# Altium integrated library Microchip PIC24F.IntLib: 529 symbols (part 8 of 32)
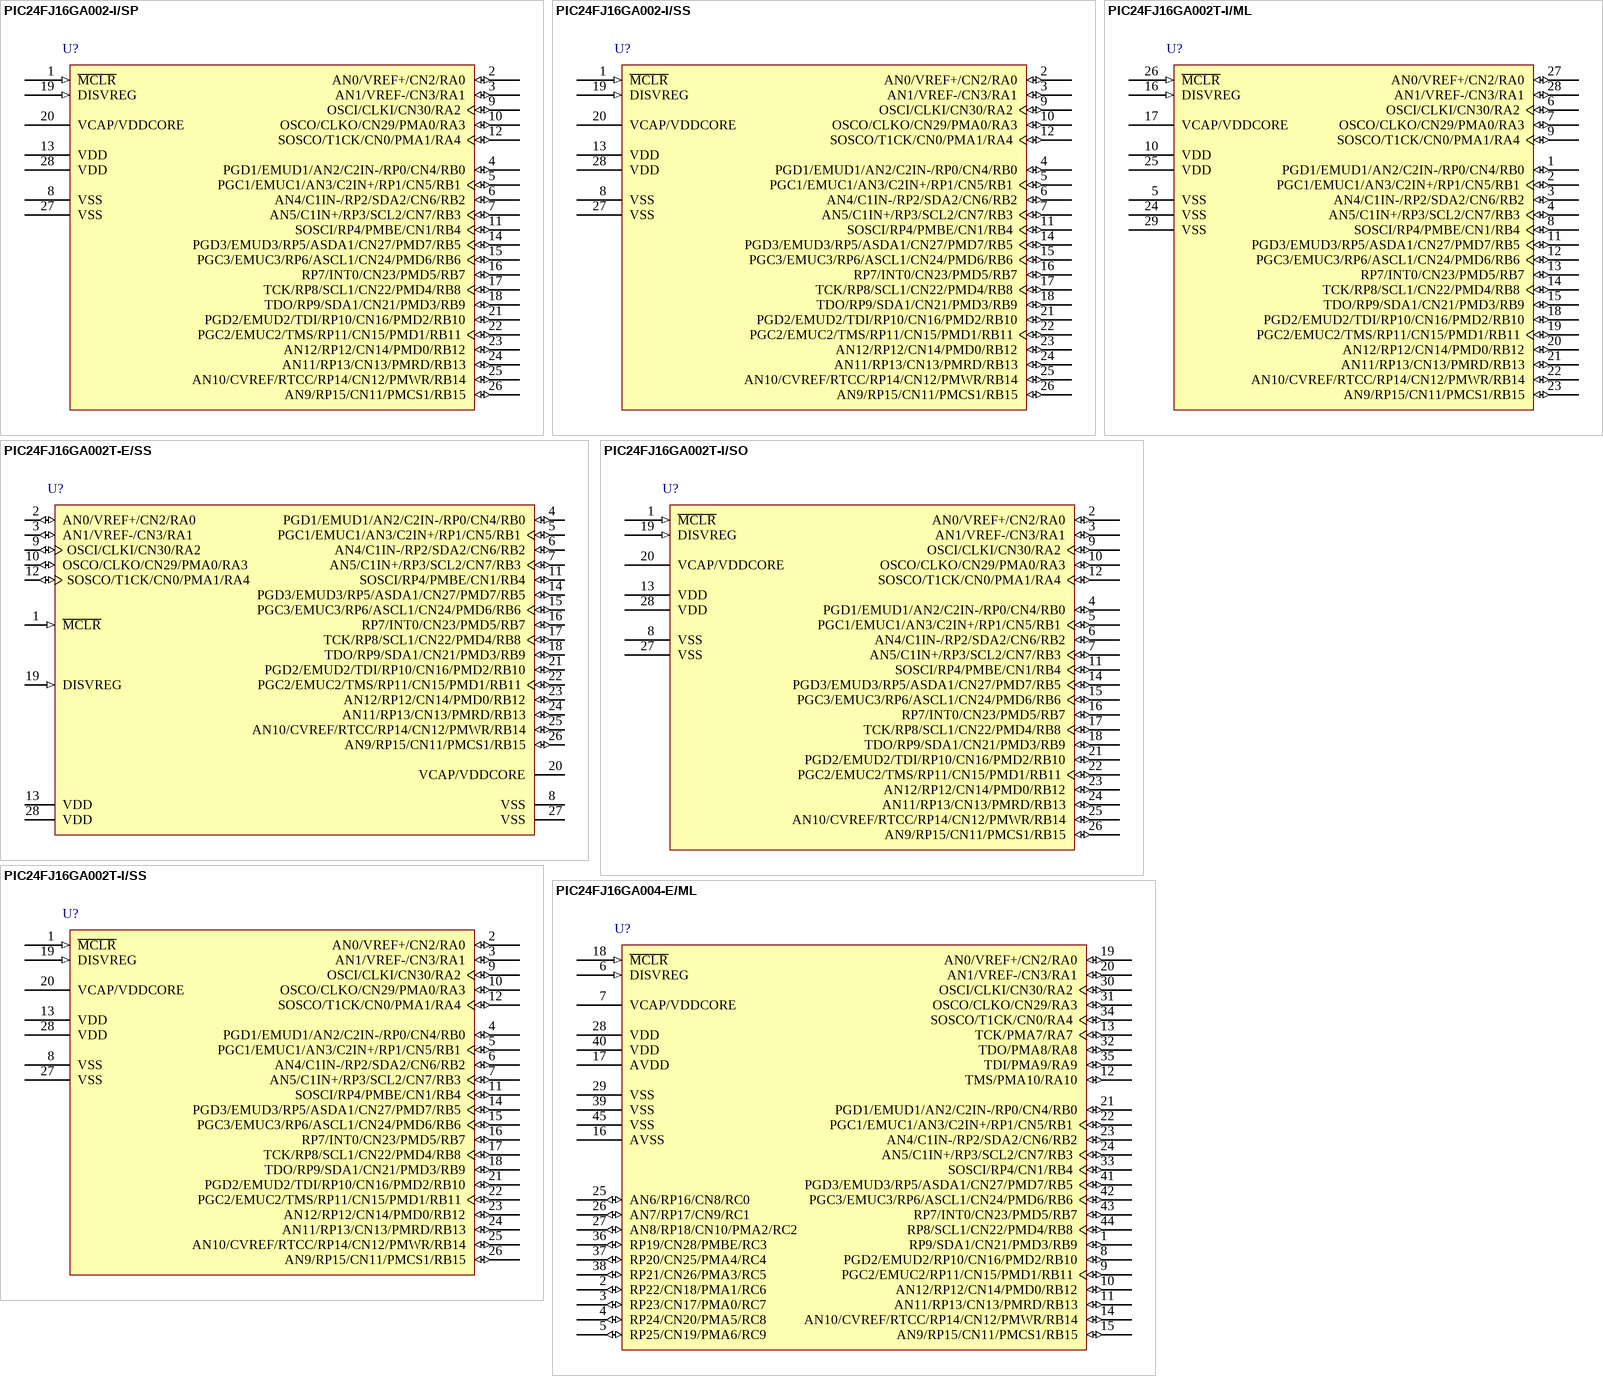
[diagram p129: symbols PIC24FJ16GA002-I/SP to PIC24FJ16GA004-E/ML]

## PIC24FJ16GA002-I/SS
designator U?
General Purpose 16-Bit Flash Microcontroller, 16KB Flash, 4KB SRAM, 28-Pin SSOP, Industrial Temperature; Manufacturer: Microchip; PartNumber: PIC24FJ16GA002-I/SS; DatasheetVersion: revD, Feb-2010; PackageVersion: revBB, Aug-2009; PackageReference: SSOP-SS28; PackageDescription: 28-Lead Plastic Shrink Small Outline (SS) - 5.3mm Body [SSOP]; Supplier 1: Digi-Key; Supplier Part Number 1: PIC24FJ16GA002-I/SS-ND; Supplier 2: Newark; Supplier Part Number 2: 40M1428; Supplier 3: Mouser; Supplier Part Number 3: 579-24FJ16GA002I/SS; Mounting Technology: Surface Mount; Code_JEDEC: MS-150; ComponentLink1Description: Manufacturer URL; ComponentLink1URL: http://www.microchip.com/; ComponentLink2Description: Datasheet; ComponentLink2URL: http://ww1.microchip.com/downloads/en/DeviceDoc/39881D.pdf; ComponentLink3Description: Package Specification; ComponentLink3URL: http://www.microchip.com/stellent/groups/techpub_sg/documents/packagingspec/en012702.pdf
footprint SSOP-SS28_N (SOP, 28-Leads, Body 10.2x5.2mm, Pitch 0.65mm, IPC Medium Density)
footprint SSOP-SS28_L (SOP, 28-Leads, Body 10.2x5.2mm, Pitch 0.65mm, IPC High Density)
footprint SSOP-SS28_M (SOP, 28-Leads, Body 10.2x5.2mm, Pitch 0.65mm, IPC Low Density)
pins: 1 ~{MCLR} (in), 2 AN0/VREF+/CN2/RA0 (io), 3 AN1/VREF-/CN3/RA1 (io), 4 PGD1/EMUD1/AN2/C2IN-/RP0/CN4/RB0 (io), 5 PGC1/EMUC1/AN3/C2IN+/RP1/CN5/RB1 (io), 6 AN4/C1IN-/RP2/SDA2/CN6/RB2 (io), 7 AN5/C1IN+/RP3/SCL2/CN7/RB3 (io), 8 VSS (power), 9 OSCI/CLKI/CN30/RA2 (io), 10 OSCO/CLKO/CN29/PMA0/RA3 (io), 11 SOSCI/RP4/PMBE/CN1/RB4 (io), 12 SOSCO/T1CK/CN0/PMA1/RA4 (io), 13 VDD (power), 14 PGD3/EMUD3/RP5/ASDA1/CN27/PMD7/RB5 (io), 15 PGC3/EMUC3/RP6/ASCL1/CN24/PMD6/RB6 (io), 16 RP7/INT0/CN23/PMD5/RB7 (io), 17 TCK/RP8/SCL1/CN22/PMD4/RB8 (io), 18 TDO/RP9/SDA1/CN21/PMD3/RB9 (io), 19 DISVREG (in), 20 VCAP/VDDCORE (power), 21 PGD2/EMUD2/TDI/RP10/CN16/PMD2/RB10 (io), 22 PGC2/EMUC2/TMS/RP11/CN15/PMD1/RB11 (io), 23 AN12/RP12/CN14/PMD0/RB12 (io), 24 AN11/RP13/CN13/PMRD/RB13 (io), 25 AN10/CVREF/RTCC/RP14/CN12/PMWR/RB14 (io), 26 AN9/RP15/CN11/PMCS1/RB15 (io), 27 VSS (power), 28 VDD (power)

## PIC24FJ16GA002T-E/SS
designator U?
General Purpose, 16-Bit Flash Microcontroller, 16 MIPS, 21 I/O, PMP, -40 to 125 degC, 28-pin SSOP (SS28), Tape and Reel; Manufacturer: Microchip; PartNumber: PIC24FJ16GA002T-E/SS; DatasheetVersion: Rev. D; PackageVersion: C04-073B; PackageReference: SSOP-SS28; PackageDescription: 28-Lead Plastic Shrink Small Outline, 10.2 x 5.3 mm Body, 0.65 mm Pitch; Mounting Technology: Surface Mount; ComponentLink1Description: Manufacturer URL; ComponentLink1URL: http://www.microchip.com; ComponentLink2Description: Datasheet; ComponentLink2URL: http://ww1.microchip.com/downloads/en/DeviceDoc/39881D.pdf; ComponentLink3Description: Package Specification; ComponentLink3URL: http://www.microchip.com/stellent/groups/techpub_sg/documents/packagingspec/en012702.pdf; ComponentLink4Description: Product URL; ComponentLink4URL: http://www.microchip.com/PIC24FJ16GA002
footprint MCHP-SSOP-SS28_N (SOP, 28-Leads, Body 10.2x5.3mm, Pitch 0.65mm, IPC Medium Density)
footprint MCHP-SSOP-SS28_L (SOP, 28-Leads, Body 10.2x5.3mm, Pitch 0.65mm, IPC High Density)
footprint MCHP-SSOP-SS28_M (SOP, 28-Leads, Body 10.2x5.3mm, Pitch 0.65mm, IPC Low Density)
pins: 1 ~{MCLR} (in) "Master Clear (device Reset) Input. This line is brought low to cause a Reset.", 2 AN0/VREF+/CN2/RA0 (io), 3 AN1/VREF-/CN3/RA1 (io), 4 PGD1/EMUD1/AN2/C2IN-/RP0/CN4/RB0 (io), 5 PGC1/EMUC1/AN3/C2IN+/RP1/CN5/RB1 (io), 6 AN4/C1IN-/RP2/SDA2/CN6/RB2 (io), 7 AN5/C1IN+/RP3/SCL2/CN7/RB3 (io), 8 VSS (power) "Ground Reference for Logic and I/O Pins.", 9 OSCI/CLKI/CN30/RA2 (io), 10 OSCO/CLKO/CN29/PMA0/RA3 (io), 11 SOSCI/RP4/PMBE/CN1/RB4 (io), 12 SOSCO/T1CK/CN0/PMA1/RA4 (io), 13 VDD (power) "Positive Supply for Peripheral Digital Logic and I/O Pins.", 14 PGD3/EMUD3/RP5/ASDA1/CN27/PMD7/RB5 (io), 15 PGC3/EMUC3/RP6/ASCL1/CN24/PMD6/RB6 (io), 16 RP7/INT0/CN23/PMD5/RB7 (io), 17 TCK/RP8/SCL1/CN22/PMD4/RB8 (io), 18 TDO/RP9/SDA1/CN21/PMD3/RB9 (io), 19 DISVREG (in) "Voltage Regulator Disable.", 20 VCAP/VDDCORE, 21 PGD2/EMUD2/TDI/RP10/CN16/PMD2/RB10 (io), 22 PGC2/EMUC2/TMS/RP11/CN15/PMD1/RB11 (io), 23 AN12/RP12/CN14/PMD0/RB12 (io), 24 AN11/RP13/CN13/PMRD/RB13 (io), 25 AN10/CVREF/RTCC/RP14/CN12/PMWR/RB14 (io), 26 AN9/RP15/CN11/PMCS1/RB15 (io), 27 VSS (power) "Ground Reference for Logic and I/O Pins.", 28 VDD (power) "Positive Supply for Peripheral Digital Logic and I/O Pins."

## PIC24FJ16GA002T-I/ML
designator U?
General Purpose 16-Bit Flash Microcontroller, 16KB Flash, 4KB SRAM, 28-Pin QFN, Industrial Temperature, Tape and Reel; Manufacturer: Microchip; PartNumber: PIC24FJ16GA002T-I/ML; DatasheetVersion: revD, Feb-2010; PackageVersion: revBB, Aug-2009; PackageReference: QFN-ML28; PackageDescription: 28-Lead Plastic Quad Flat, No Lead Package (ML) - 6x6 mm Body [QFN] with 0.55 mm Contact Length; Supplier 1: Digi-Key; Supplier Part Number 1: PIC24FJ16GA002T-I/ML-ND; Supplier 2: Mouser; Supplier Part Number 2: 579-24FJ16GA002TI/ML; Mounting Technology: Surface Mount; Code_JEDEC: MO-220; ComponentLink1Description: Manufacturer URL; ComponentLink1URL: http://www.microchip.com/; ComponentLink2Description: Datasheet; ComponentLink2URL: http://ww1.microchip.com/downloads/en/DeviceDoc/39881D.pdf; ComponentLink3Description: Package Specification; ComponentLink3URL: http://www.microchip.com/stellent/groups/techpub_sg/documents/packagingspec/en012702.pdf
footprint QFN-ML28_N (QFN, 28-Leads, Body 6x6mm, Pitch 0.65mm, Thermal Pad 4.2x4.2mm, IPC Medium Density)
footprint QFN-ML28_L (QFN, 28-Leads, Body 6x6mm, Pitch 0.65mm, Thermal Pad 4.2x4.2mm, IPC High Density)
footprint QFN-ML28_M (QFN, 28-Leads, Body 6x6mm, Pitch 0.65mm, Thermal Pad 4.2x4.2mm, IPC Low Density)
pins: 1 PGD1/EMUD1/AN2/C2IN-/RP0/CN4/RB0 (io), 2 PGC1/EMUC1/AN3/C2IN+/RP1/CN5/RB1 (io), 3 AN4/C1IN-/RP2/SDA2/CN6/RB2 (io), 4 AN5/C1IN+/RP3/SCL2/CN7/RB3 (io), 5 VSS (power), 6 OSCI/CLKI/CN30/RA2 (io), 7 OSCO/CLKO/CN29/PMA0/RA3 (io), 8 SOSCI/RP4/PMBE/CN1/RB4 (io), 9 SOSCO/T1CK/CN0/PMA1/RA4 (io), 10 VDD (power), 11 PGD3/EMUD3/RP5/ASDA1/CN27/PMD7/RB5 (io), 12 PGC3/EMUC3/RP6/ASCL1/CN24/PMD6/RB6 (io), 13 RP7/INT0/CN23/PMD5/RB7 (io), 14 TCK/RP8/SCL1/CN22/PMD4/RB8 (io), 15 TDO/RP9/SDA1/CN21/PMD3/RB9 (io), 16 DISVREG (in), 17 VCAP/VDDCORE (power), 18 PGD2/EMUD2/TDI/RP10/CN16/PMD2/RB10 (io), 19 PGC2/EMUC2/TMS/RP11/CN15/PMD1/RB11 (io), 20 AN12/RP12/CN14/PMD0/RB12 (io), 21 AN11/RP13/CN13/PMRD/RB13 (io), 22 AN10/CVREF/RTCC/RP14/CN12/PMWR/RB14 (io), 23 AN9/RP15/CN11/PMCS1/RB15 (io), 24 VSS (power), 25 VDD (power), 26 ~{MCLR} (in), 27 AN0/VREF+/CN2/RA0 (io), 28 AN1/VREF-/CN3/RA1 (io), 29 VSS (power)

## PIC24FJ16GA002T-I/SO
designator U?
General Purpose 16-Bit Flash Microcontroller, 16KB Flash, 4KB SRAM, 28-Pin SOIC, Industrial Temperature, Tape and Reel; Manufacturer: Microchip; PartNumber: PIC24FJ16GA002T-I/SO; DatasheetVersion: revD, Feb-2010; PackageVersion: revBB, Aug-2009; PackageReference: SOIC-SO28; PackageDescription: 28-Lead Plastic Small Outline (SO) - Wide 7.50mm Body [SOIC]; Supplier 1: Digi-Key; Supplier Part Number 1: PIC24FJ16GA002T-I/SO-ND; Supplier 2: Mouser; Supplier Part Number 2: 579-24FJ16GA002TI/SO; Mounting Technology: Surface Mount; Code_JEDEC: MS-013; ComponentLink1Description: Manufacturer URL; ComponentLink1URL: http://www.microchip.com/; ComponentLink2Description: Datasheet; ComponentLink2URL: http://ww1.microchip.com/downloads/en/DeviceDoc/39881D.pdf; ComponentLink3Description: Package Specification; ComponentLink3URL: http://www.microchip.com/stellent/groups/techpub_sg/documents/packagingspec/en012702.pdf
footprint SOIC-SO28_N (SOIC, 28-Leads, Body 17.9x7.5mm, Pitch 1.27mm, IPC Medium Density)
footprint SOIC-SO28_L (SOIC, 28-Leads, Body 17.9x7.5mm, Pitch 1.27mm, IPC High Density)
footprint SOIC-SO28_M (SOIC, 28-Leads, Body 17.9x7.5mm, Pitch 1.27mm, IPC Low Density)
pins: 1 ~{MCLR} (in), 2 AN0/VREF+/CN2/RA0 (io), 3 AN1/VREF-/CN3/RA1 (io), 4 PGD1/EMUD1/AN2/C2IN-/RP0/CN4/RB0 (io), 5 PGC1/EMUC1/AN3/C2IN+/RP1/CN5/RB1 (io), 6 AN4/C1IN-/RP2/SDA2/CN6/RB2 (io), 7 AN5/C1IN+/RP3/SCL2/CN7/RB3 (io), 8 VSS (power), 9 OSCI/CLKI/CN30/RA2 (io), 10 OSCO/CLKO/CN29/PMA0/RA3 (io), 11 SOSCI/RP4/PMBE/CN1/RB4 (io), 12 SOSCO/T1CK/CN0/PMA1/RA4 (io), 13 VDD (power), 14 PGD3/EMUD3/RP5/ASDA1/CN27/PMD7/RB5 (io), 15 PGC3/EMUC3/RP6/ASCL1/CN24/PMD6/RB6 (io), 16 RP7/INT0/CN23/PMD5/RB7 (io), 17 TCK/RP8/SCL1/CN22/PMD4/RB8 (io), 18 TDO/RP9/SDA1/CN21/PMD3/RB9 (io), 19 DISVREG (in), 20 VCAP/VDDCORE (power), 21 PGD2/EMUD2/TDI/RP10/CN16/PMD2/RB10 (io), 22 PGC2/EMUC2/TMS/RP11/CN15/PMD1/RB11 (io), 23 AN12/RP12/CN14/PMD0/RB12 (io), 24 AN11/RP13/CN13/PMRD/RB13 (io), 25 AN10/CVREF/RTCC/RP14/CN12/PMWR/RB14 (io), 26 AN9/RP15/CN11/PMCS1/RB15 (io), 27 VSS (power), 28 VDD (power)

## PIC24FJ16GA002T-I/SS
designator U?
General Purpose 16-Bit Flash Microcontroller, 16KB Flash, 4KB SRAM, 28-Pin SSOP, Industrial Temperature, Tape and Reel; Manufacturer: Microchip; PartNumber: PIC24FJ16GA002T-I/SS; DatasheetVersion: revD, Feb-2010; PackageVersion: revBB, Aug-2009; PackageReference: SSOP-SS28; PackageDescription: 28-Lead Plastic Shrink Small Outline (SS) - 5.3mm Body [SSOP]; Supplier 1: Digi-Key; Supplier Part Number 1: PIC24FJ16GA002T-I/SSTR-ND; Supplier 2: Mouser; Supplier Part Number 2: 579-PIC24FJ16GA002TI; Mounting Technology: Surface Mount; Code_JEDEC: MS-150; ComponentLink1Description: Manufacturer URL; ComponentLink1URL: http://www.microchip.com/; ComponentLink2Description: Datasheet; ComponentLink2URL: http://ww1.microchip.com/downloads/en/DeviceDoc/39881D.pdf; ComponentLink3Description: Package Specification; ComponentLink3URL: http://www.microchip.com/stellent/groups/techpub_sg/documents/packagingspec/en012702.pdf
footprint SSOP-SS28_N (SOP, 28-Leads, Body 10.2x5.2mm, Pitch 0.65mm, IPC Medium Density)
footprint SSOP-SS28_L (SOP, 28-Leads, Body 10.2x5.2mm, Pitch 0.65mm, IPC High Density)
footprint SSOP-SS28_M (SOP, 28-Leads, Body 10.2x5.2mm, Pitch 0.65mm, IPC Low Density)
pins: 1 ~{MCLR} (in), 2 AN0/VREF+/CN2/RA0 (io), 3 AN1/VREF-/CN3/RA1 (io), 4 PGD1/EMUD1/AN2/C2IN-/RP0/CN4/RB0 (io), 5 PGC1/EMUC1/AN3/C2IN+/RP1/CN5/RB1 (io), 6 AN4/C1IN-/RP2/SDA2/CN6/RB2 (io), 7 AN5/C1IN+/RP3/SCL2/CN7/RB3 (io), 8 VSS (power), 9 OSCI/CLKI/CN30/RA2 (io), 10 OSCO/CLKO/CN29/PMA0/RA3 (io), 11 SOSCI/RP4/PMBE/CN1/RB4 (io), 12 SOSCO/T1CK/CN0/PMA1/RA4 (io), 13 VDD (power), 14 PGD3/EMUD3/RP5/ASDA1/CN27/PMD7/RB5 (io), 15 PGC3/EMUC3/RP6/ASCL1/CN24/PMD6/RB6 (io), 16 RP7/INT0/CN23/PMD5/RB7 (io), 17 TCK/RP8/SCL1/CN22/PMD4/RB8 (io), 18 TDO/RP9/SDA1/CN21/PMD3/RB9 (io), 19 DISVREG (in), 20 VCAP/VDDCORE (power), 21 PGD2/EMUD2/TDI/RP10/CN16/PMD2/RB10 (io), 22 PGC2/EMUC2/TMS/RP11/CN15/PMD1/RB11 (io), 23 AN12/RP12/CN14/PMD0/RB12 (io), 24 AN11/RP13/CN13/PMRD/RB13 (io), 25 AN10/CVREF/RTCC/RP14/CN12/PMWR/RB14 (io), 26 AN9/RP15/CN11/PMCS1/RB15 (io), 27 VSS (power), 28 VDD (power)

## PIC24FJ16GA004-E/ML
designator U?
General Purpose 16-Bit Flash Microcontroller, 16KB Flash, 4KB SRAM, 44-Pin QFN, Extended Temperature; Manufacturer: Microchip; PartNumber: PIC24FJ16GA004-E/ML; DatasheetVersion: revD, Feb-2010; PackageVersion: revBB, Aug-2009; PackageReference: QFN-ML44; PackageDescription: 44-Lead Plastic Quad Flat, No Lead Package (ML) - 8x8 mm Body [QFN]; Supplier 1: Digi-Key; Supplier Part Number 1: PIC24FJ16GA004-E/ML-ND; Supplier 2: Mouser; Supplier Part Number 2: 579-PIC24F16GA004EML; Mounting Technology: Surface Mount; Code_JEDEC: MO-220; Code_IPC: QFN65P800X800-44V2; ComponentLink1Description: Manufacturer URL; ComponentLink1URL: http://www.microchip.com/; ComponentLink2Description: Datasheet; ComponentLink2URL: http://ww1.microchip.com/downloads/en/DeviceDoc/39881D.pdf; ComponentLink3Description: Package Specification; ComponentLink3URL: http://www.microchip.com/stellent/groups/techpub_sg/documents/packagingspec/en012702.pdf
footprint QFN-ML44_N (QFN, 44-Leads, Body 8x8mm, Pitch 0.65mm, Thermal Pad 6.8x6.8mm, IPC Medium Density)
footprint QFN-ML44_L (QFN, 44-Leads, Body 8x8mm, Pitch 0.65mm, Thermal Pad 6.8x6.8mm, IPC High Density)
footprint QFN-ML44_M (QFN, 44-Leads, Body 8x8mm, Pitch 0.65mm, Thermal Pad 6.8x6.8mm, IPC Low Density)
pins: 1 RP9/SDA1/CN21/PMD3/RB9 (io), 2 RP22/CN18/PMA1/RC6 (io), 3 RP23/CN17/PMA0/RC7 (io), 4 RP24/CN20/PMA5/RC8 (io), 5 RP25/CN19/PMA6/RC9 (io), 6 DISVREG (in), 7 VCAP/VDDCORE (power), 8 PGD2/EMUD2/RP10/CN16/PMD2/RB10 (io), 9 PGC2/EMUC2/RP11/CN15/PMD1/RB11 (io), 10 AN12/RP12/CN14/PMD0/RB12 (io), 11 AN11/RP13/CN13/PMRD/RB13 (io), 12 TMS/PMA10/RA10 (io), 13 TCK/PMA7/RA7 (io), 14 AN10/CVREF/RTCC/RP14/CN12/PMWR/RB14 (io), 15 AN9/RP15/CN11/PMCS1/RB15 (io), 16 AVSS (power), 17 AVDD (power), 18 ~{MCLR} (in), 19 AN0/VREF+/CN2/RA0 (io), 20 AN1/VREF-/CN3/RA1 (io), 21 PGD1/EMUD1/AN2/C2IN-/RP0/CN4/RB0 (io), 22 PGC1/EMUC1/AN3/C2IN+/RP1/CN5/RB1 (io), 23 AN4/C1IN-/RP2/SDA2/CN6/RB2 (io), 24 AN5/C1IN+/RP3/SCL2/CN7/RB3 (io), 25 AN6/RP16/CN8/RC0 (io), 26 AN7/RP17/CN9/RC1 (io), 27 AN8/RP18/CN10/PMA2/RC2 (io), 28 VDD (power), 29 VSS (power), 30 OSCI/CLKI/CN30/RA2 (io), 31 OSCO/CLKO/CN29/RA3 (io), 32 TDO/PMA8/RA8 (io), 33 SOSCI/RP4/CN1/RB4 (io), 34 SOSCO/T1CK/CN0/RA4 (io), 35 TDI/PMA9/RA9 (io), 36 RP19/CN28/PMBE/RC3 (io), 37 RP20/CN25/PMA4/RC4 (io), 38 RP21/CN26/PMA3/RC5 (io), 39 VSS (power), 40 VDD (power), 41 PGD3/EMUD3/RP5/ASDA1/CN27/PMD7/RB5 (io), 42 PGC3/EMUC3/RP6/ASCL1/CN24/PMD6/RB6 (io), 43 RP7/INT0/CN23/PMD5/RB7 (io), 44 RP8/SCL1/CN22/PMD4/RB8 (io), 45 VSS (power)

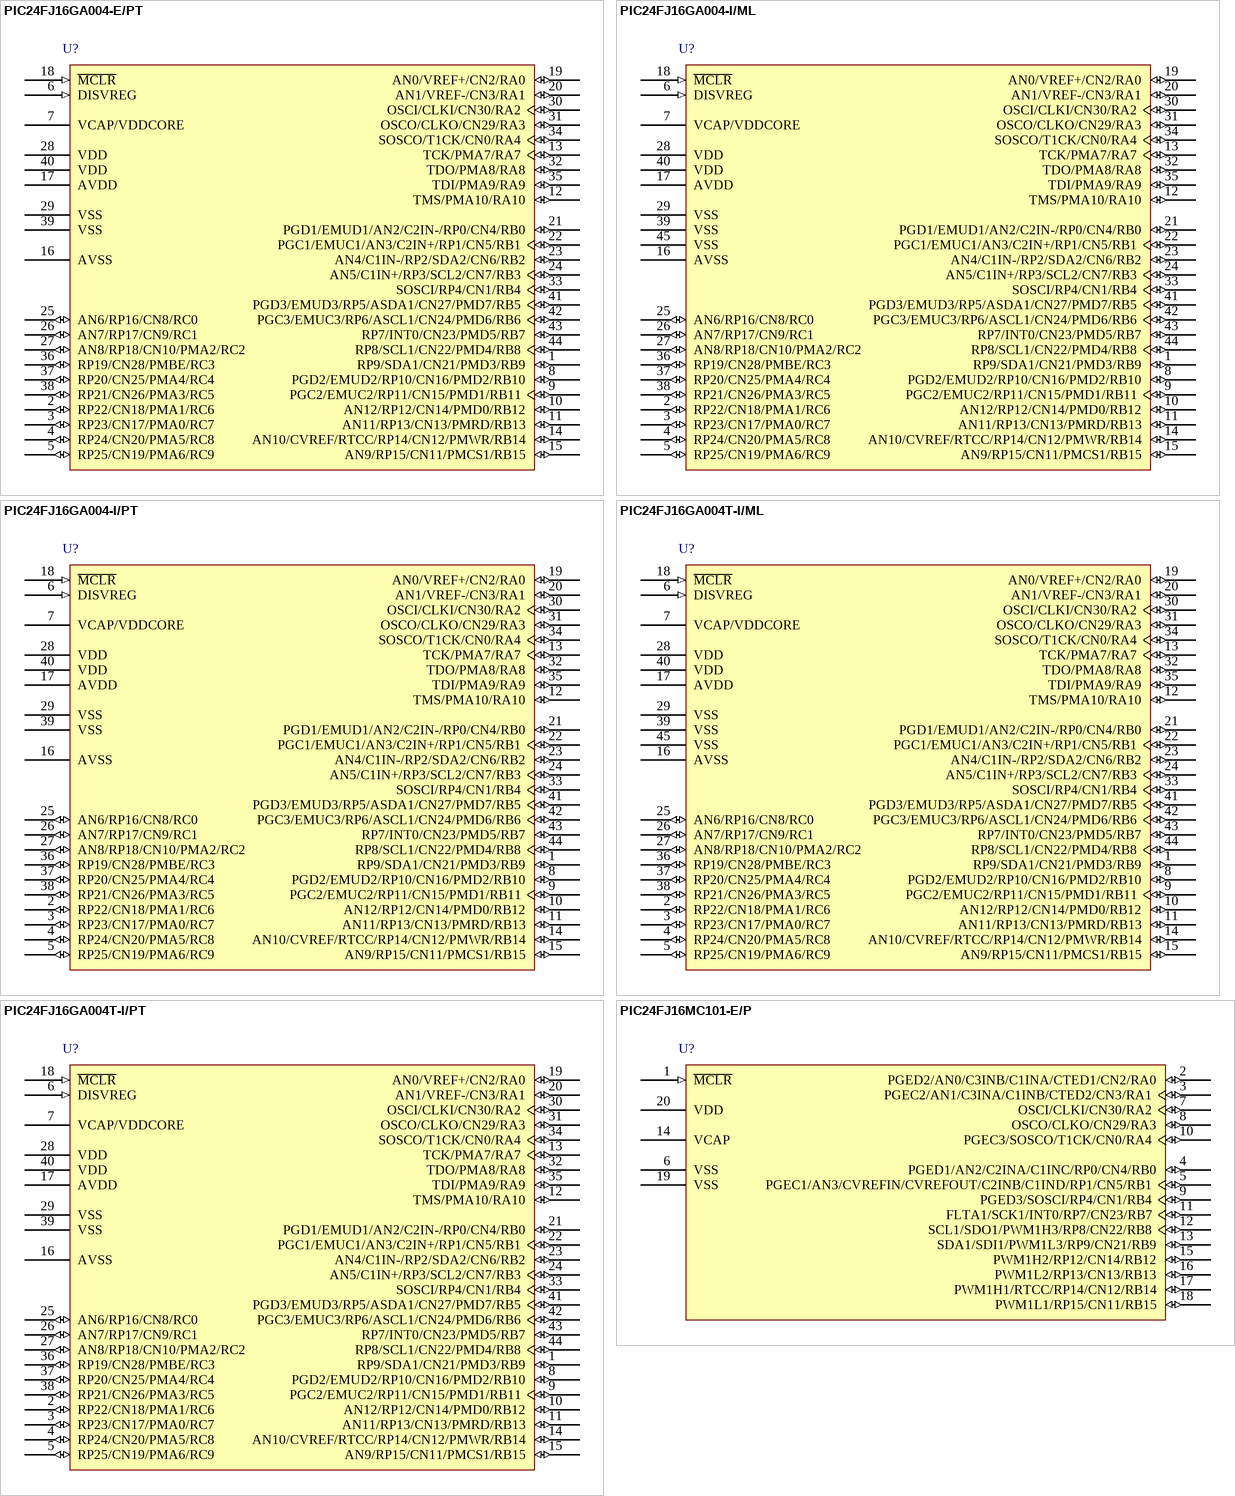
[diagram p23: symbols PIC24FJ16GA004-E/PT to PIC24FJ16MC101-E/P]

## PIC24FJ16GA004-E/PT
designator U?
General Purpose 16-Bit Flash Microcontroller, 16KB Flash, 4KB SRAM, 44-Pin TQFP, Extended Temperature; Manufacturer: Microchip; PartNumber: PIC24FJ16GA004-E/PT; DatasheetVersion: revD, Feb-2010; PackageVersion: revBB, Aug-2009; PackageReference: TQFP-PT44; PackageDescription: 44-Lead Plastic Thin Quad Flatpack (PT) - 10x10x1mm Body, 2.00mm [TQFP]; Supplier 1: Digi-Key; Supplier Part Number 1: PIC24FJ16GA004-E/PT-ND; Supplier 2: Farnell; Supplier Part Number 2: 1847844; Supplier 3: Newark; Supplier Part Number 3: 98M1909; Supplier 4: Mouser; Supplier Part Number 4: 579-PIC24F16GA004EPT; Mounting Technology: Surface Mount; Code_JEDEC: MS-026; ComponentLink1Description: Manufacturer URL; ComponentLink1URL: http://www.microchip.com/; ComponentLink2Description: Datasheet; ComponentLink2URL: http://ww1.microchip.com/downloads/en/DeviceDoc/39881D.pdf; ComponentLink3Description: Package Specification; ComponentLink3URL: http://www.microchip.com/stellent/groups/techpub_sg/documents/packagingspec/en012702.pdf
footprint TQFP-PT44_N (Thin QFP, 44-Leads, Body 10x10mm, Pitch 0.8mm, IPC Medium Density)
footprint TQFP-PT44_L (Thin QFP, 44-Leads, Body 10x10mm, Pitch 0.8mm, IPC High Density)
footprint TQFP-PT44_M (Thin QFP, 44-Leads, Body 10x10mm, Pitch 0.8mm, IPC Low Density)
pins: 1 RP9/SDA1/CN21/PMD3/RB9 (io), 2 RP22/CN18/PMA1/RC6 (io), 3 RP23/CN17/PMA0/RC7 (io), 4 RP24/CN20/PMA5/RC8 (io), 5 RP25/CN19/PMA6/RC9 (io), 6 DISVREG (in), 7 VCAP/VDDCORE (power), 8 PGD2/EMUD2/RP10/CN16/PMD2/RB10 (io), 9 PGC2/EMUC2/RP11/CN15/PMD1/RB11 (io), 10 AN12/RP12/CN14/PMD0/RB12 (io), 11 AN11/RP13/CN13/PMRD/RB13 (io), 12 TMS/PMA10/RA10 (io), 13 TCK/PMA7/RA7 (io), 14 AN10/CVREF/RTCC/RP14/CN12/PMWR/RB14 (io), 15 AN9/RP15/CN11/PMCS1/RB15 (io), 16 AVSS (power), 17 AVDD (power), 18 ~{MCLR} (in), 19 AN0/VREF+/CN2/RA0 (io), 20 AN1/VREF-/CN3/RA1 (io), 21 PGD1/EMUD1/AN2/C2IN-/RP0/CN4/RB0 (io), 22 PGC1/EMUC1/AN3/C2IN+/RP1/CN5/RB1 (io), 23 AN4/C1IN-/RP2/SDA2/CN6/RB2 (io), 24 AN5/C1IN+/RP3/SCL2/CN7/RB3 (io), 25 AN6/RP16/CN8/RC0 (io), 26 AN7/RP17/CN9/RC1 (io), 27 AN8/RP18/CN10/PMA2/RC2 (io), 28 VDD (power), 29 VSS (power), 30 OSCI/CLKI/CN30/RA2 (io), 31 OSCO/CLKO/CN29/RA3 (io), 32 TDO/PMA8/RA8 (io), 33 SOSCI/RP4/CN1/RB4 (io), 34 SOSCO/T1CK/CN0/RA4 (io), 35 TDI/PMA9/RA9 (io), 36 RP19/CN28/PMBE/RC3 (io), 37 RP20/CN25/PMA4/RC4 (io), 38 RP21/CN26/PMA3/RC5 (io), 39 VSS (power), 40 VDD (power), 41 PGD3/EMUD3/RP5/ASDA1/CN27/PMD7/RB5 (io), 42 PGC3/EMUC3/RP6/ASCL1/CN24/PMD6/RB6 (io), 43 RP7/INT0/CN23/PMD5/RB7 (io), 44 RP8/SCL1/CN22/PMD4/RB8 (io)

## PIC24FJ16GA004-I/ML
designator U?
General Purpose 16-Bit Flash Microcontroller, 16KB Flash, 4KB SRAM, 44-Pin QFN, Industrial Temperature; Manufacturer: Microchip; PartNumber: PIC24FJ16GA004-I/ML; DatasheetVersion: revD, Feb-2010; PackageVersion: revBB, Aug-2009; PackageReference: QFN-ML44; PackageDescription: 44-Lead Plastic Quad Flat, No Lead Package (ML) - 8x8 mm Body [QFN]; Supplier 1: Digi-Key; Supplier Part Number 1: PIC24FJ16GA004-I/ML-ND; Supplier 2: Mouser; Supplier Part Number 2: 579-PIC24FJ16A004IML; Mounting Technology: Surface Mount; Code_JEDEC: MO-220; Code_IPC: QFN65P800X800-44V2; ComponentLink1Description: Manufacturer URL; ComponentLink1URL: http://www.microchip.com/; ComponentLink2Description: Datasheet; ComponentLink2URL: http://ww1.microchip.com/downloads/en/DeviceDoc/39881D.pdf; ComponentLink3Description: Package Specification; ComponentLink3URL: http://www.microchip.com/stellent/groups/techpub_sg/documents/packagingspec/en012702.pdf
footprint QFN-ML44_N (QFN, 44-Leads, Body 8x8mm, Pitch 0.65mm, Thermal Pad 6.8x6.8mm, IPC Medium Density)
footprint QFN-ML44_L (QFN, 44-Leads, Body 8x8mm, Pitch 0.65mm, Thermal Pad 6.8x6.8mm, IPC High Density)
footprint QFN-ML44_M (QFN, 44-Leads, Body 8x8mm, Pitch 0.65mm, Thermal Pad 6.8x6.8mm, IPC Low Density)
pins: 1 RP9/SDA1/CN21/PMD3/RB9 (io), 2 RP22/CN18/PMA1/RC6 (io), 3 RP23/CN17/PMA0/RC7 (io), 4 RP24/CN20/PMA5/RC8 (io), 5 RP25/CN19/PMA6/RC9 (io), 6 DISVREG (in), 7 VCAP/VDDCORE (power), 8 PGD2/EMUD2/RP10/CN16/PMD2/RB10 (io), 9 PGC2/EMUC2/RP11/CN15/PMD1/RB11 (io), 10 AN12/RP12/CN14/PMD0/RB12 (io), 11 AN11/RP13/CN13/PMRD/RB13 (io), 12 TMS/PMA10/RA10 (io), 13 TCK/PMA7/RA7 (io), 14 AN10/CVREF/RTCC/RP14/CN12/PMWR/RB14 (io), 15 AN9/RP15/CN11/PMCS1/RB15 (io), 16 AVSS (power), 17 AVDD (power), 18 ~{MCLR} (in), 19 AN0/VREF+/CN2/RA0 (io), 20 AN1/VREF-/CN3/RA1 (io), 21 PGD1/EMUD1/AN2/C2IN-/RP0/CN4/RB0 (io), 22 PGC1/EMUC1/AN3/C2IN+/RP1/CN5/RB1 (io), 23 AN4/C1IN-/RP2/SDA2/CN6/RB2 (io), 24 AN5/C1IN+/RP3/SCL2/CN7/RB3 (io), 25 AN6/RP16/CN8/RC0 (io), 26 AN7/RP17/CN9/RC1 (io), 27 AN8/RP18/CN10/PMA2/RC2 (io), 28 VDD (power), 29 VSS (power), 30 OSCI/CLKI/CN30/RA2 (io), 31 OSCO/CLKO/CN29/RA3 (io), 32 TDO/PMA8/RA8 (io), 33 SOSCI/RP4/CN1/RB4 (io), 34 SOSCO/T1CK/CN0/RA4 (io), 35 TDI/PMA9/RA9 (io), 36 RP19/CN28/PMBE/RC3 (io), 37 RP20/CN25/PMA4/RC4 (io), 38 RP21/CN26/PMA3/RC5 (io), 39 VSS (power), 40 VDD (power), 41 PGD3/EMUD3/RP5/ASDA1/CN27/PMD7/RB5 (io), 42 PGC3/EMUC3/RP6/ASCL1/CN24/PMD6/RB6 (io), 43 RP7/INT0/CN23/PMD5/RB7 (io), 44 RP8/SCL1/CN22/PMD4/RB8 (io), 45 VSS (power)

## PIC24FJ16GA004-I/PT
designator U?
General Purpose 16-Bit Flash Microcontroller, 16KB Flash, 4KB SRAM, 44-Pin TQFP, Industrial Temperature; Manufacturer: Microchip; PartNumber: PIC24FJ16GA004-I/PT; DatasheetVersion: revD, Feb-2010; PackageVersion: revBB, Aug-2009; PackageReference: TQFP-PT44; PackageDescription: 44-Lead Plastic Thin Quad Flatpack (PT) - 10x10x1mm Body, 2.00mm [TQFP]; Supplier 1: Digi-Key; Supplier Part Number 1: PIC24FJ16GA004-I/PT-ND; Supplier 2: Newark; Supplier Part Number 2: 40M1433; Supplier 3: Mouser; Supplier Part Number 3: 579-PIC24FJ16A004IPT; Mounting Technology: Surface Mount; Code_JEDEC: MS-026; ComponentLink1Description: Manufacturer URL; ComponentLink1URL: http://www.microchip.com/; ComponentLink2Description: Datasheet; ComponentLink2URL: http://ww1.microchip.com/downloads/en/DeviceDoc/39881D.pdf; ComponentLink3Description: Package Specification; ComponentLink3URL: http://www.microchip.com/stellent/groups/techpub_sg/documents/packagingspec/en012702.pdf
footprint TQFP-PT44_N (Thin QFP, 44-Leads, Body 10x10mm, Pitch 0.8mm, IPC Medium Density)
footprint TQFP-PT44_L (Thin QFP, 44-Leads, Body 10x10mm, Pitch 0.8mm, IPC High Density)
footprint TQFP-PT44_M (Thin QFP, 44-Leads, Body 10x10mm, Pitch 0.8mm, IPC Low Density)
pins: 1 RP9/SDA1/CN21/PMD3/RB9 (io), 2 RP22/CN18/PMA1/RC6 (io), 3 RP23/CN17/PMA0/RC7 (io), 4 RP24/CN20/PMA5/RC8 (io), 5 RP25/CN19/PMA6/RC9 (io), 6 DISVREG (in), 7 VCAP/VDDCORE (power), 8 PGD2/EMUD2/RP10/CN16/PMD2/RB10 (io), 9 PGC2/EMUC2/RP11/CN15/PMD1/RB11 (io), 10 AN12/RP12/CN14/PMD0/RB12 (io), 11 AN11/RP13/CN13/PMRD/RB13 (io), 12 TMS/PMA10/RA10 (io), 13 TCK/PMA7/RA7 (io), 14 AN10/CVREF/RTCC/RP14/CN12/PMWR/RB14 (io), 15 AN9/RP15/CN11/PMCS1/RB15 (io), 16 AVSS (power), 17 AVDD (power), 18 ~{MCLR} (in), 19 AN0/VREF+/CN2/RA0 (io), 20 AN1/VREF-/CN3/RA1 (io), 21 PGD1/EMUD1/AN2/C2IN-/RP0/CN4/RB0 (io), 22 PGC1/EMUC1/AN3/C2IN+/RP1/CN5/RB1 (io), 23 AN4/C1IN-/RP2/SDA2/CN6/RB2 (io), 24 AN5/C1IN+/RP3/SCL2/CN7/RB3 (io), 25 AN6/RP16/CN8/RC0 (io), 26 AN7/RP17/CN9/RC1 (io), 27 AN8/RP18/CN10/PMA2/RC2 (io), 28 VDD (power), 29 VSS (power), 30 OSCI/CLKI/CN30/RA2 (io), 31 OSCO/CLKO/CN29/RA3 (io), 32 TDO/PMA8/RA8 (io), 33 SOSCI/RP4/CN1/RB4 (io), 34 SOSCO/T1CK/CN0/RA4 (io), 35 TDI/PMA9/RA9 (io), 36 RP19/CN28/PMBE/RC3 (io), 37 RP20/CN25/PMA4/RC4 (io), 38 RP21/CN26/PMA3/RC5 (io), 39 VSS (power), 40 VDD (power), 41 PGD3/EMUD3/RP5/ASDA1/CN27/PMD7/RB5 (io), 42 PGC3/EMUC3/RP6/ASCL1/CN24/PMD6/RB6 (io), 43 RP7/INT0/CN23/PMD5/RB7 (io), 44 RP8/SCL1/CN22/PMD4/RB8 (io)

## PIC24FJ16GA004T-I/ML
designator U?
General Purpose 16-Bit Flash Microcontroller, 16KB Flash, 4KB SRAM, 44-Pin QFN, Industrial Temperature, Tape and Reel; Manufacturer: Microchip; PartNumber: PIC24FJ16GA004T-I/ML; DatasheetVersion: revD, Feb-2010; PackageVersion: revBB, Aug-2009; PackageReference: QFN-ML44; PackageDescription: 44-Lead Plastic Quad Flat, No Lead Package (ML) - 8x8 mm Body [QFN]; Supplier 1: Digi-Key; Supplier Part Number 1: PIC24FJ16GA004T-I/ML-ND; Supplier 2: Mouser; Supplier Part Number 2: 579-24FJ16GA004TI/ML; Mounting Technology: Surface Mount; Code_JEDEC: MO-220; Code_IPC: QFN65P800X800-44V2; ComponentLink1Description: Manufacturer URL; ComponentLink1URL: http://www.microchip.com/; ComponentLink2Description: Datasheet; ComponentLink2URL: http://ww1.microchip.com/downloads/en/DeviceDoc/39881D.pdf; ComponentLink3Description: Package Specification; ComponentLink3URL: http://www.microchip.com/stellent/groups/techpub_sg/documents/packagingspec/en012702.pdf
footprint QFN-ML44_N (QFN, 44-Leads, Body 8x8mm, Pitch 0.65mm, Thermal Pad 6.8x6.8mm, IPC Medium Density)
footprint QFN-ML44_L (QFN, 44-Leads, Body 8x8mm, Pitch 0.65mm, Thermal Pad 6.8x6.8mm, IPC High Density)
footprint QFN-ML44_M (QFN, 44-Leads, Body 8x8mm, Pitch 0.65mm, Thermal Pad 6.8x6.8mm, IPC Low Density)
pins: 1 RP9/SDA1/CN21/PMD3/RB9 (io), 2 RP22/CN18/PMA1/RC6 (io), 3 RP23/CN17/PMA0/RC7 (io), 4 RP24/CN20/PMA5/RC8 (io), 5 RP25/CN19/PMA6/RC9 (io), 6 DISVREG (in), 7 VCAP/VDDCORE (power), 8 PGD2/EMUD2/RP10/CN16/PMD2/RB10 (io), 9 PGC2/EMUC2/RP11/CN15/PMD1/RB11 (io), 10 AN12/RP12/CN14/PMD0/RB12 (io), 11 AN11/RP13/CN13/PMRD/RB13 (io), 12 TMS/PMA10/RA10 (io), 13 TCK/PMA7/RA7 (io), 14 AN10/CVREF/RTCC/RP14/CN12/PMWR/RB14 (io), 15 AN9/RP15/CN11/PMCS1/RB15 (io), 16 AVSS (power), 17 AVDD (power), 18 ~{MCLR} (in), 19 AN0/VREF+/CN2/RA0 (io), 20 AN1/VREF-/CN3/RA1 (io), 21 PGD1/EMUD1/AN2/C2IN-/RP0/CN4/RB0 (io), 22 PGC1/EMUC1/AN3/C2IN+/RP1/CN5/RB1 (io), 23 AN4/C1IN-/RP2/SDA2/CN6/RB2 (io), 24 AN5/C1IN+/RP3/SCL2/CN7/RB3 (io), 25 AN6/RP16/CN8/RC0 (io), 26 AN7/RP17/CN9/RC1 (io), 27 AN8/RP18/CN10/PMA2/RC2 (io), 28 VDD (power), 29 VSS (power), 30 OSCI/CLKI/CN30/RA2 (io), 31 OSCO/CLKO/CN29/RA3 (io), 32 TDO/PMA8/RA8 (io), 33 SOSCI/RP4/CN1/RB4 (io), 34 SOSCO/T1CK/CN0/RA4 (io), 35 TDI/PMA9/RA9 (io), 36 RP19/CN28/PMBE/RC3 (io), 37 RP20/CN25/PMA4/RC4 (io), 38 RP21/CN26/PMA3/RC5 (io), 39 VSS (power), 40 VDD (power), 41 PGD3/EMUD3/RP5/ASDA1/CN27/PMD7/RB5 (io), 42 PGC3/EMUC3/RP6/ASCL1/CN24/PMD6/RB6 (io), 43 RP7/INT0/CN23/PMD5/RB7 (io), 44 RP8/SCL1/CN22/PMD4/RB8 (io), 45 VSS (power)

## PIC24FJ16GA004T-I/PT
designator U?
General Purpose 16-Bit Flash Microcontroller, 16KB Flash, 4KB SRAM, 44-Pin TQFP, Industrial Temperature, Tape and Reel; Manufacturer: Microchip; PartNumber: PIC24FJ16GA004T-I/PT; DatasheetVersion: revD, Feb-2010; PackageVersion: revBB, Aug-2009; PackageReference: TQFP-PT44; PackageDescription: 44-Lead Plastic Thin Quad Flatpack (PT) - 10x10x1mm Body, 2.00mm [TQFP]; Supplier 1: Digi-Key; Supplier Part Number 1: PIC24FJ16GA004T-I/PT-ND; Supplier 2: Mouser; Supplier Part Number 2: 579-24FJ16GA004TI/PT; Mounting Technology: Surface Mount; Code_JEDEC: MS-026; ComponentLink1Description: Manufacturer URL; ComponentLink1URL: http://www.microchip.com/; ComponentLink2Description: Datasheet; ComponentLink2URL: http://ww1.microchip.com/downloads/en/DeviceDoc/39881D.pdf; ComponentLink3Description: Package Specification; ComponentLink3URL: http://www.microchip.com/stellent/groups/techpub_sg/documents/packagingspec/en012702.pdf
footprint TQFP-PT44_N (Thin QFP, 44-Leads, Body 10x10mm, Pitch 0.8mm, IPC Medium Density)
footprint TQFP-PT44_L (Thin QFP, 44-Leads, Body 10x10mm, Pitch 0.8mm, IPC High Density)
footprint TQFP-PT44_M (Thin QFP, 44-Leads, Body 10x10mm, Pitch 0.8mm, IPC Low Density)
pins: 1 RP9/SDA1/CN21/PMD3/RB9 (io), 2 RP22/CN18/PMA1/RC6 (io), 3 RP23/CN17/PMA0/RC7 (io), 4 RP24/CN20/PMA5/RC8 (io), 5 RP25/CN19/PMA6/RC9 (io), 6 DISVREG (in), 7 VCAP/VDDCORE (power), 8 PGD2/EMUD2/RP10/CN16/PMD2/RB10 (io), 9 PGC2/EMUC2/RP11/CN15/PMD1/RB11 (io), 10 AN12/RP12/CN14/PMD0/RB12 (io), 11 AN11/RP13/CN13/PMRD/RB13 (io), 12 TMS/PMA10/RA10 (io), 13 TCK/PMA7/RA7 (io), 14 AN10/CVREF/RTCC/RP14/CN12/PMWR/RB14 (io), 15 AN9/RP15/CN11/PMCS1/RB15 (io), 16 AVSS (power), 17 AVDD (power), 18 ~{MCLR} (in), 19 AN0/VREF+/CN2/RA0 (io), 20 AN1/VREF-/CN3/RA1 (io), 21 PGD1/EMUD1/AN2/C2IN-/RP0/CN4/RB0 (io), 22 PGC1/EMUC1/AN3/C2IN+/RP1/CN5/RB1 (io), 23 AN4/C1IN-/RP2/SDA2/CN6/RB2 (io), 24 AN5/C1IN+/RP3/SCL2/CN7/RB3 (io), 25 AN6/RP16/CN8/RC0 (io), 26 AN7/RP17/CN9/RC1 (io), 27 AN8/RP18/CN10/PMA2/RC2 (io), 28 VDD (power), 29 VSS (power), 30 OSCI/CLKI/CN30/RA2 (io), 31 OSCO/CLKO/CN29/RA3 (io), 32 TDO/PMA8/RA8 (io), 33 SOSCI/RP4/CN1/RB4 (io), 34 SOSCO/T1CK/CN0/RA4 (io), 35 TDI/PMA9/RA9 (io), 36 RP19/CN28/PMBE/RC3 (io), 37 RP20/CN25/PMA4/RC4 (io), 38 RP21/CN26/PMA3/RC5 (io), 39 VSS (power), 40 VDD (power), 41 PGD3/EMUD3/RP5/ASDA1/CN27/PMD7/RB5 (io), 42 PGC3/EMUC3/RP6/ASCL1/CN24/PMD6/RB6 (io), 43 RP7/INT0/CN23/PMD5/RB7 (io), 44 RP8/SCL1/CN22/PMD4/RB8 (io)

## PIC24FJ16MC101-E/P
designator U?
High-Performance 16-Bit Microcontroller, 16KB Flash, 1KB SRAM, 20-Pin PDIP, Extended Temperature; Manufacturer: Microchip; PartNumber: PIC24FJ16MC101-E/P; DatasheetVersion: revB, Jun-2011; PackageVersion: revBB, Aug-2009; PackageReference: PDIP300-P20; PackageDescription: 20-Lead Plastic Dual In-Line (P) - 300 mil Body [PDIP]; Supplier 1: Digi-Key; Supplier Part Number 1: PIC24FJ16MC101-E/P-ND; Supplier 2: Mouser; Supplier Part Number 2: 579-PIC24FJ16MC101EP; Mounting Technology: Through Hole; ComponentLink1Description: Manufacturer URL; ComponentLink1URL: http://www.microchip.com/; ComponentLink2Description: Datasheet; ComponentLink2URL: http://ww1.microchip.com/downloads/en/DeviceDoc/39997B.pdf; ComponentLink3Description: Package Specification; ComponentLink3URL: http://www.microchip.com/stellent/groups/techpub_sg/documents/packagingspec/en012702.pdf
footprint PDIP300-P20 (DIP, 20-Leads, Row Spacing 7.62mm, Pitch 2.54mm, Body 25.9x6.6mm)
pins: 1 ~{MCLR} (in), 2 PGED2/AN0/C3INB/C1INA/CTED1/CN2/RA0 (io), 3 PGEC2/AN1/C3INA/C1INB/CTED2/CN3/RA1 (io), 4 PGED1/AN2/C2INA/C1INC/RP0/CN4/RB0 (io), 5 PGEC1/AN3/CVREFIN/CVREFOUT/C2INB/C1IND/RP1/CN5/RB1 (io), 6 VSS (power), 7 OSCI/CLKI/CN30/RA2 (io), 8 OSCO/CLKO/CN29/RA3 (io), 9 PGED3/SOSCI/RP4/CN1/RB4 (io), 10 PGEC3/SOSCO/T1CK/CN0/RA4 (io), 11 FLTA1/SCK1/INT0/RP7/CN23/RB7 (io), 12 SCL1/SDO1/PWM1H3/RP8/CN22/RB8 (io), 13 SDA1/SDI1/PWM1L3/RP9/CN21/RB9 (io), 14 VCAP (power), 15 PWM1H2/RP12/CN14/RB12 (io), 16 PWM1L2/RP13/CN13/RB13 (io), 17 PWM1H1/RTCC/RP14/CN12/RB14 (io), 18 PWM1L1/RP15/CN11/RB15 (io), 19 VSS (power), 20 VDD (power)

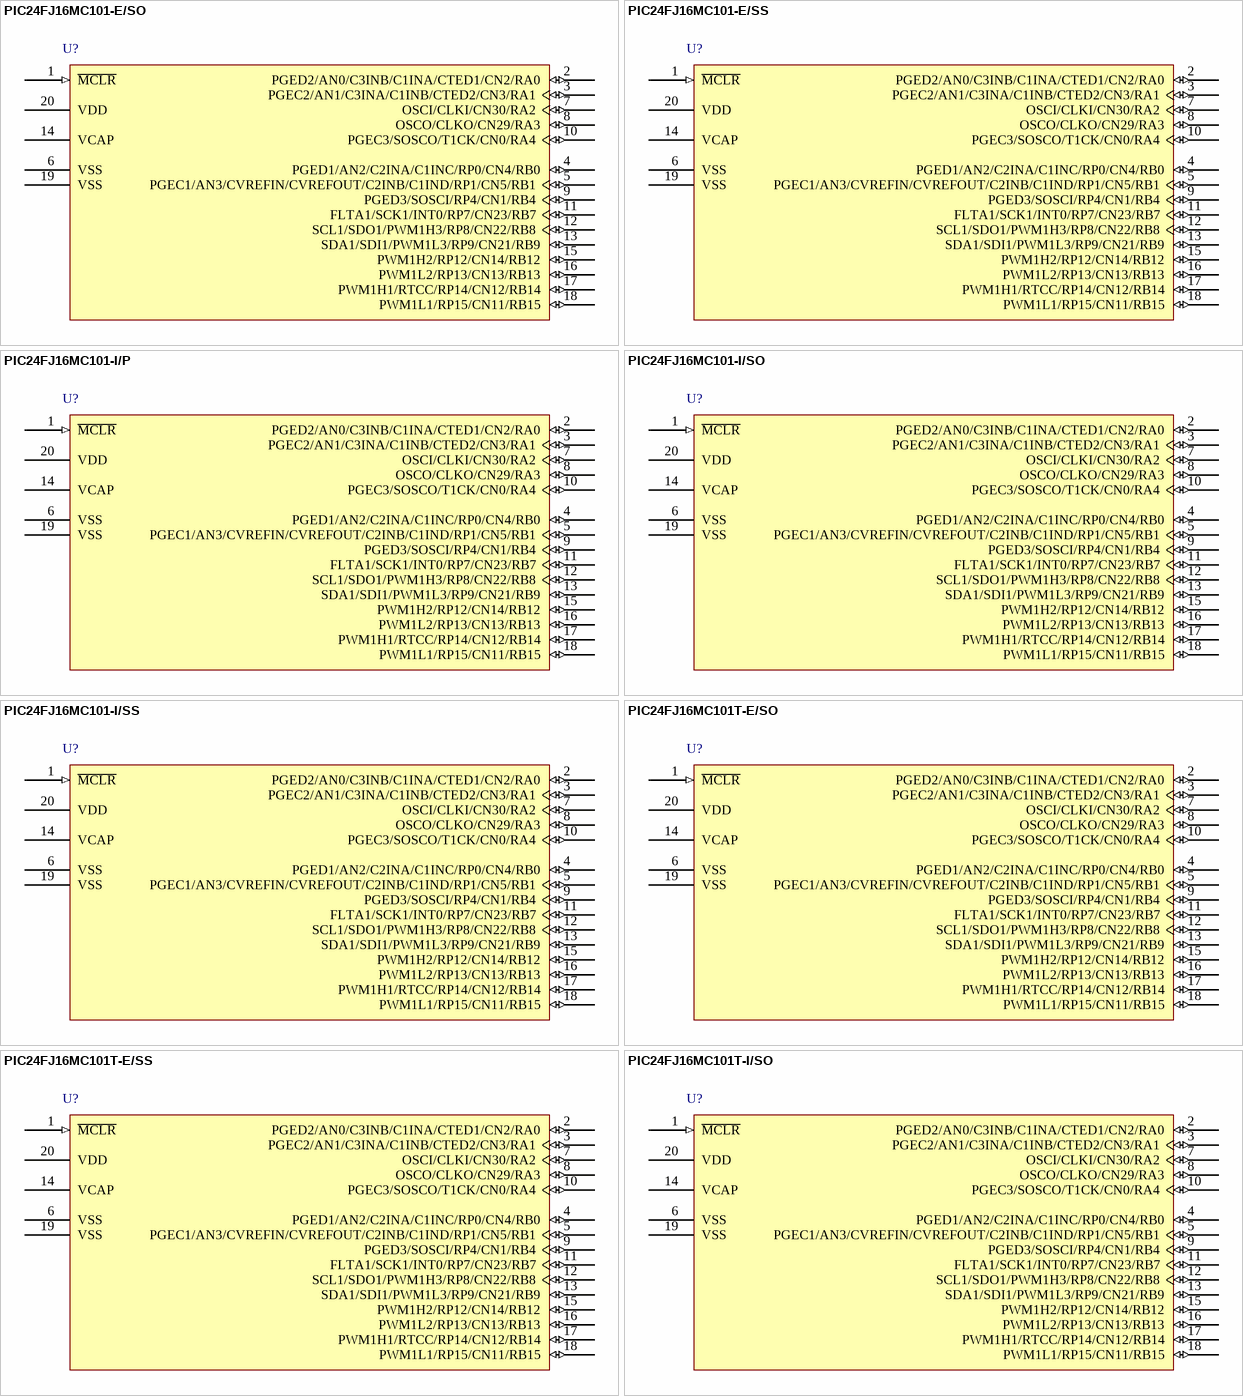
[diagram p24: symbols PIC24FJ16MC101-E/SO to PIC24FJ16MC101T-I/SO]

## PIC24FJ16MC101-E/SO
designator U?
High-Performance 16-Bit Microcontroller, 16KB Flash, 1KB SRAM, 20-Pin SOIC, Extended Temperature; Manufacturer: Microchip; PartNumber: PIC24FJ16MC101-E/SO; DatasheetVersion: revB, Jun-2011; PackageVersion: revBB, Aug-2009; PackageReference: SOIC-SO20; PackageDescription: 20-Lead Plastic Small Outline (SO) - Wide 7.50mm Body [SOIC]; Supplier 1: Digi-Key; Supplier Part Number 1: PIC24FJ16MC101-E/SO-ND; Supplier 2: Newark; Supplier Part Number 2: 13T4759; Supplier 3: Mouser; Supplier Part Number 3: 579-24FJ16MC101ESO; Mounting Technology: Surface Mount; Code_JEDEC: MS-013-AC; Code_IPC: SOIC127P1030-20; ComponentLink1Description: Manufacturer URL; ComponentLink1URL: http://www.microchip.com/; ComponentLink2Description: Datasheet; ComponentLink2URL: http://ww1.microchip.com/downloads/en/DeviceDoc/39997B.pdf; ComponentLink3Description: Package Specification; ComponentLink3URL: http://www.microchip.com/stellent/groups/techpub_sg/documents/packagingspec/en012702.pdf
footprint SOIC-SO20_N (SOIC, 20-Leads, Body 12.8x7.5mm, Pitch 1.27mm, IPC Medium Density)
footprint SOIC-SO20_L (SOIC, 20-Leads, Body 12.8x7.5mm, Pitch 1.27mm, IPC High Density)
footprint SOIC-SO20_M (SOIC, 20-Leads, Body 12.8x7.5mm, Pitch 1.27mm, IPC Low Density)
pins: 1 ~{MCLR} (in), 2 PGED2/AN0/C3INB/C1INA/CTED1/CN2/RA0 (io), 3 PGEC2/AN1/C3INA/C1INB/CTED2/CN3/RA1 (io), 4 PGED1/AN2/C2INA/C1INC/RP0/CN4/RB0 (io), 5 PGEC1/AN3/CVREFIN/CVREFOUT/C2INB/C1IND/RP1/CN5/RB1 (io), 6 VSS (power), 7 OSCI/CLKI/CN30/RA2 (io), 8 OSCO/CLKO/CN29/RA3 (io), 9 PGED3/SOSCI/RP4/CN1/RB4 (io), 10 PGEC3/SOSCO/T1CK/CN0/RA4 (io), 11 FLTA1/SCK1/INT0/RP7/CN23/RB7 (io), 12 SCL1/SDO1/PWM1H3/RP8/CN22/RB8 (io), 13 SDA1/SDI1/PWM1L3/RP9/CN21/RB9 (io), 14 VCAP (power), 15 PWM1H2/RP12/CN14/RB12 (io), 16 PWM1L2/RP13/CN13/RB13 (io), 17 PWM1H1/RTCC/RP14/CN12/RB14 (io), 18 PWM1L1/RP15/CN11/RB15 (io), 19 VSS (power), 20 VDD (power)

## PIC24FJ16MC101-E/SS
designator U?
High-Performance 16-Bit Microcontroller, 16KB Flash, 1KB SRAM, 20-Pin SSOP, Extended Temperature; Manufacturer: Microchip; PartNumber: PIC24FJ16MC101-E/SS; DatasheetVersion: revB, Jun-2011; PackageVersion: revBB, Aug-2009; PackageReference: SSOP-SS20; PackageDescription: 20-Lead Plastic Shrink Small Outline (SS) - 5.3mm Body [SSOP]; Supplier 1: Digi-Key; Supplier Part Number 1: PIC24FJ16MC101-E/SS-ND; Supplier 2: Mouser; Supplier Part Number 2: 579-24FJ16MC101ESS; Mounting Technology: Surface Mount; Code_JEDEC: MO-150; ComponentLink1Description: Manufacturer URL; ComponentLink1URL: http://www.microchip.com/; ComponentLink2Description: Datasheet; ComponentLink2URL: http://ww1.microchip.com/downloads/en/DeviceDoc/39997B.pdf; ComponentLink3Description: Package Specification; ComponentLink3URL: http://www.microchip.com/stellent/groups/techpub_sg/documents/packagingspec/en012702.pdf
footprint SSOP-SS20_N (SOP, 20-Leads, Body 7.2x5.2mm, Pitch 0.65mm, IPC Medium Density)
footprint SSOP-SS20_L (SOP, 20-Leads, Body 7.2x5.2mm, Pitch 0.65mm, IPC High Density)
footprint SSOP-SS20_M (SOP, 20-Leads, Body 7.2x5.2mm, Pitch 0.65mm, IPC Low Density)
pins: 1 ~{MCLR} (in), 2 PGED2/AN0/C3INB/C1INA/CTED1/CN2/RA0 (io), 3 PGEC2/AN1/C3INA/C1INB/CTED2/CN3/RA1 (io), 4 PGED1/AN2/C2INA/C1INC/RP0/CN4/RB0 (io), 5 PGEC1/AN3/CVREFIN/CVREFOUT/C2INB/C1IND/RP1/CN5/RB1 (io), 6 VSS (power), 7 OSCI/CLKI/CN30/RA2 (io), 8 OSCO/CLKO/CN29/RA3 (io), 9 PGED3/SOSCI/RP4/CN1/RB4 (io), 10 PGEC3/SOSCO/T1CK/CN0/RA4 (io), 11 FLTA1/SCK1/INT0/RP7/CN23/RB7 (io), 12 SCL1/SDO1/PWM1H3/RP8/CN22/RB8 (io), 13 SDA1/SDI1/PWM1L3/RP9/CN21/RB9 (io), 14 VCAP (power), 15 PWM1H2/RP12/CN14/RB12 (io), 16 PWM1L2/RP13/CN13/RB13 (io), 17 PWM1H1/RTCC/RP14/CN12/RB14 (io), 18 PWM1L1/RP15/CN11/RB15 (io), 19 VSS (power), 20 VDD (power)

## PIC24FJ16MC101-I/P
designator U?
High-Performance 16-Bit Microcontroller, 16KB Flash, 1KB SRAM, 20-Pin PDIP, Industrial Temperature; Manufacturer: Microchip; PartNumber: PIC24FJ16MC101-I/P; DatasheetVersion: revB, Jun-2011; PackageVersion: revBB, Aug-2009; PackageReference: PDIP300-P20; PackageDescription: 20-Lead Plastic Dual In-Line (P) - 300 mil Body [PDIP]; Supplier 1: Digi-Key; Supplier Part Number 1: PIC24FJ16MC101-I/P-ND; Supplier 2: Farnell; Supplier Part Number 2: 2077460; Supplier 3: Mouser; Supplier Part Number 3: 579-PIC24FJ16MC101IP; Mounting Technology: Through Hole; ComponentLink1Description: Manufacturer URL; ComponentLink1URL: http://www.microchip.com/; ComponentLink2Description: Datasheet; ComponentLink2URL: http://ww1.microchip.com/downloads/en/DeviceDoc/39997B.pdf; ComponentLink3Description: Package Specification; ComponentLink3URL: http://www.microchip.com/stellent/groups/techpub_sg/documents/packagingspec/en012702.pdf
footprint PDIP300-P20 (DIP, 20-Leads, Row Spacing 7.62mm, Pitch 2.54mm, Body 25.9x6.6mm)
pins: 1 ~{MCLR} (in), 2 PGED2/AN0/C3INB/C1INA/CTED1/CN2/RA0 (io), 3 PGEC2/AN1/C3INA/C1INB/CTED2/CN3/RA1 (io), 4 PGED1/AN2/C2INA/C1INC/RP0/CN4/RB0 (io), 5 PGEC1/AN3/CVREFIN/CVREFOUT/C2INB/C1IND/RP1/CN5/RB1 (io), 6 VSS (power), 7 OSCI/CLKI/CN30/RA2 (io), 8 OSCO/CLKO/CN29/RA3 (io), 9 PGED3/SOSCI/RP4/CN1/RB4 (io), 10 PGEC3/SOSCO/T1CK/CN0/RA4 (io), 11 FLTA1/SCK1/INT0/RP7/CN23/RB7 (io), 12 SCL1/SDO1/PWM1H3/RP8/CN22/RB8 (io), 13 SDA1/SDI1/PWM1L3/RP9/CN21/RB9 (io), 14 VCAP (power), 15 PWM1H2/RP12/CN14/RB12 (io), 16 PWM1L2/RP13/CN13/RB13 (io), 17 PWM1H1/RTCC/RP14/CN12/RB14 (io), 18 PWM1L1/RP15/CN11/RB15 (io), 19 VSS (power), 20 VDD (power)

## PIC24FJ16MC101-I/SO
designator U?
High-Performance 16-Bit Microcontroller, 16KB Flash, 1KB SRAM, 20-Pin SOIC, Industrial Temperature; Manufacturer: Microchip; PartNumber: PIC24FJ16MC101-I/SO; DatasheetVersion: revB, Jun-2011; PackageVersion: revBB, Aug-2009; PackageReference: SOIC-SO20; PackageDescription: 20-Lead Plastic Small Outline (SO) - Wide 7.50mm Body [SOIC]; Supplier 1: Digi-Key; Supplier Part Number 1: PIC24FJ16MC101-I/SO-ND; Supplier 2: Farnell; Supplier Part Number 2: 2077461; Supplier 3: Newark; Supplier Part Number 3: 79T4807; Supplier 4: Mouser; Supplier Part Number 4: 579-24FJ16MC101ISO; Mounting Technology: Surface Mount; Code_JEDEC: MS-013-AC; Code_IPC: SOIC127P1030-20; ComponentLink1Description: Manufacturer URL; ComponentLink1URL: http://www.microchip.com/; ComponentLink2Description: Datasheet; ComponentLink2URL: http://ww1.microchip.com/downloads/en/DeviceDoc/39997B.pdf; ComponentLink3Description: Package Specification; ComponentLink3URL: http://www.microchip.com/stellent/groups/techpub_sg/documents/packagingspec/en012702.pdf
footprint SOIC-SO20_N (SOIC, 20-Leads, Body 12.8x7.5mm, Pitch 1.27mm, IPC Medium Density)
footprint SOIC-SO20_L (SOIC, 20-Leads, Body 12.8x7.5mm, Pitch 1.27mm, IPC High Density)
footprint SOIC-SO20_M (SOIC, 20-Leads, Body 12.8x7.5mm, Pitch 1.27mm, IPC Low Density)
pins: 1 ~{MCLR} (in), 2 PGED2/AN0/C3INB/C1INA/CTED1/CN2/RA0 (io), 3 PGEC2/AN1/C3INA/C1INB/CTED2/CN3/RA1 (io), 4 PGED1/AN2/C2INA/C1INC/RP0/CN4/RB0 (io), 5 PGEC1/AN3/CVREFIN/CVREFOUT/C2INB/C1IND/RP1/CN5/RB1 (io), 6 VSS (power), 7 OSCI/CLKI/CN30/RA2 (io), 8 OSCO/CLKO/CN29/RA3 (io), 9 PGED3/SOSCI/RP4/CN1/RB4 (io), 10 PGEC3/SOSCO/T1CK/CN0/RA4 (io), 11 FLTA1/SCK1/INT0/RP7/CN23/RB7 (io), 12 SCL1/SDO1/PWM1H3/RP8/CN22/RB8 (io), 13 SDA1/SDI1/PWM1L3/RP9/CN21/RB9 (io), 14 VCAP (power), 15 PWM1H2/RP12/CN14/RB12 (io), 16 PWM1L2/RP13/CN13/RB13 (io), 17 PWM1H1/RTCC/RP14/CN12/RB14 (io), 18 PWM1L1/RP15/CN11/RB15 (io), 19 VSS (power), 20 VDD (power)

## PIC24FJ16MC101-I/SS
designator U?
High-Performance 16-Bit Microcontroller, 16KB Flash, 1KB SRAM, 20-Pin SSOP, Industrial Temperature; Manufacturer: Microchip; PartNumber: PIC24FJ16MC101-I/SS; DatasheetVersion: revB, Jun-2011; PackageVersion: revBB, Aug-2009; PackageReference: SSOP-SS20; PackageDescription: 20-Lead Plastic Shrink Small Outline (SS) - 5.3mm Body [SSOP]; Supplier 1: Digi-Key; Supplier Part Number 1: PIC24FJ16MC101-I/SS-ND; Supplier 2: Mouser; Supplier Part Number 2: 579-24FJ16MC101ISS; Mounting Technology: Surface Mount; Code_JEDEC: MO-150; ComponentLink1Description: Manufacturer URL; ComponentLink1URL: http://www.microchip.com/; ComponentLink2Description: Datasheet; ComponentLink2URL: http://ww1.microchip.com/downloads/en/DeviceDoc/39997B.pdf; ComponentLink3Description: Package Specification; ComponentLink3URL: http://www.microchip.com/stellent/groups/techpub_sg/documents/packagingspec/en012702.pdf
footprint SSOP-SS20_N (SOP, 20-Leads, Body 7.2x5.2mm, Pitch 0.65mm, IPC Medium Density)
footprint SSOP-SS20_L (SOP, 20-Leads, Body 7.2x5.2mm, Pitch 0.65mm, IPC High Density)
footprint SSOP-SS20_M (SOP, 20-Leads, Body 7.2x5.2mm, Pitch 0.65mm, IPC Low Density)
pins: 1 ~{MCLR} (in), 2 PGED2/AN0/C3INB/C1INA/CTED1/CN2/RA0 (io), 3 PGEC2/AN1/C3INA/C1INB/CTED2/CN3/RA1 (io), 4 PGED1/AN2/C2INA/C1INC/RP0/CN4/RB0 (io), 5 PGEC1/AN3/CVREFIN/CVREFOUT/C2INB/C1IND/RP1/CN5/RB1 (io), 6 VSS (power), 7 OSCI/CLKI/CN30/RA2 (io), 8 OSCO/CLKO/CN29/RA3 (io), 9 PGED3/SOSCI/RP4/CN1/RB4 (io), 10 PGEC3/SOSCO/T1CK/CN0/RA4 (io), 11 FLTA1/SCK1/INT0/RP7/CN23/RB7 (io), 12 SCL1/SDO1/PWM1H3/RP8/CN22/RB8 (io), 13 SDA1/SDI1/PWM1L3/RP9/CN21/RB9 (io), 14 VCAP (power), 15 PWM1H2/RP12/CN14/RB12 (io), 16 PWM1L2/RP13/CN13/RB13 (io), 17 PWM1H1/RTCC/RP14/CN12/RB14 (io), 18 PWM1L1/RP15/CN11/RB15 (io), 19 VSS (power), 20 VDD (power)

## PIC24FJ16MC101T-E/SO
designator U?
High-Performance 16-Bit Microcontroller, 16KB Flash, 1KB SRAM, 20-Pin SOIC, Extended Temperature, Tape and Reel; Manufacturer: Microchip; PartNumber: PIC24FJ16MC101T-E/SO; DatasheetVersion: revB, Jun-2011; PackageVersion: revBB, Aug-2009; PackageReference: SOIC-SO20; PackageDescription: 20-Lead Plastic Small Outline (SO) - Wide 7.50mm Body [SOIC]; Mounting Technology: Surface Mount; Code_JEDEC: MS-013-AC; Code_IPC: SOIC127P1030-20; ComponentLink1Description: Manufacturer URL; ComponentLink1URL: http://www.microchip.com/; ComponentLink2Description: Datasheet; ComponentLink2URL: http://ww1.microchip.com/downloads/en/DeviceDoc/39997B.pdf; ComponentLink3Description: Package Specification; ComponentLink3URL: http://www.microchip.com/stellent/groups/techpub_sg/documents/packagingspec/en012702.pdf
footprint SOIC-SO20_N (SOIC, 20-Leads, Body 12.8x7.5mm, Pitch 1.27mm, IPC Medium Density)
footprint SOIC-SO20_L (SOIC, 20-Leads, Body 12.8x7.5mm, Pitch 1.27mm, IPC High Density)
footprint SOIC-SO20_M (SOIC, 20-Leads, Body 12.8x7.5mm, Pitch 1.27mm, IPC Low Density)
pins: 1 ~{MCLR} (in), 2 PGED2/AN0/C3INB/C1INA/CTED1/CN2/RA0 (io), 3 PGEC2/AN1/C3INA/C1INB/CTED2/CN3/RA1 (io), 4 PGED1/AN2/C2INA/C1INC/RP0/CN4/RB0 (io), 5 PGEC1/AN3/CVREFIN/CVREFOUT/C2INB/C1IND/RP1/CN5/RB1 (io), 6 VSS (power), 7 OSCI/CLKI/CN30/RA2 (io), 8 OSCO/CLKO/CN29/RA3 (io), 9 PGED3/SOSCI/RP4/CN1/RB4 (io), 10 PGEC3/SOSCO/T1CK/CN0/RA4 (io), 11 FLTA1/SCK1/INT0/RP7/CN23/RB7 (io), 12 SCL1/SDO1/PWM1H3/RP8/CN22/RB8 (io), 13 SDA1/SDI1/PWM1L3/RP9/CN21/RB9 (io), 14 VCAP (power), 15 PWM1H2/RP12/CN14/RB12 (io), 16 PWM1L2/RP13/CN13/RB13 (io), 17 PWM1H1/RTCC/RP14/CN12/RB14 (io), 18 PWM1L1/RP15/CN11/RB15 (io), 19 VSS (power), 20 VDD (power)

## PIC24FJ16MC101T-E/SS
designator U?
High-Performance 16-Bit Microcontroller, 16KB Flash, 1KB SRAM, 20-Pin SSOP, Extended Temperature, Tape and Reel; Manufacturer: Microchip; PartNumber: PIC24FJ16MC101T-E/SS; DatasheetVersion: revB, Jun-2011; PackageVersion: revBB, Aug-2009; PackageReference: SSOP-SS20; PackageDescription: 20-Lead Plastic Shrink Small Outline (SS) - 5.3mm Body [SSOP]; Mounting Technology: Surface Mount; Code_JEDEC: MO-150; ComponentLink1Description: Manufacturer URL; ComponentLink1URL: http://www.microchip.com/; ComponentLink2Description: Datasheet; ComponentLink2URL: http://ww1.microchip.com/downloads/en/DeviceDoc/39997B.pdf; ComponentLink3Description: Package Specification; ComponentLink3URL: http://www.microchip.com/stellent/groups/techpub_sg/documents/packagingspec/en012702.pdf
footprint SSOP-SS20_N (SOP, 20-Leads, Body 7.2x5.2mm, Pitch 0.65mm, IPC Medium Density)
footprint SSOP-SS20_L (SOP, 20-Leads, Body 7.2x5.2mm, Pitch 0.65mm, IPC High Density)
footprint SSOP-SS20_M (SOP, 20-Leads, Body 7.2x5.2mm, Pitch 0.65mm, IPC Low Density)
pins: 1 ~{MCLR} (in), 2 PGED2/AN0/C3INB/C1INA/CTED1/CN2/RA0 (io), 3 PGEC2/AN1/C3INA/C1INB/CTED2/CN3/RA1 (io), 4 PGED1/AN2/C2INA/C1INC/RP0/CN4/RB0 (io), 5 PGEC1/AN3/CVREFIN/CVREFOUT/C2INB/C1IND/RP1/CN5/RB1 (io), 6 VSS (power), 7 OSCI/CLKI/CN30/RA2 (io), 8 OSCO/CLKO/CN29/RA3 (io), 9 PGED3/SOSCI/RP4/CN1/RB4 (io), 10 PGEC3/SOSCO/T1CK/CN0/RA4 (io), 11 FLTA1/SCK1/INT0/RP7/CN23/RB7 (io), 12 SCL1/SDO1/PWM1H3/RP8/CN22/RB8 (io), 13 SDA1/SDI1/PWM1L3/RP9/CN21/RB9 (io), 14 VCAP (power), 15 PWM1H2/RP12/CN14/RB12 (io), 16 PWM1L2/RP13/CN13/RB13 (io), 17 PWM1H1/RTCC/RP14/CN12/RB14 (io), 18 PWM1L1/RP15/CN11/RB15 (io), 19 VSS (power), 20 VDD (power)

## PIC24FJ16MC101T-I/SO
designator U?
High-Performance 16-Bit Microcontroller, 16KB Flash, 1KB SRAM, 20-Pin SOIC, Industrial Temperature, Tape and Reel; Manufacturer: Microchip; PartNumber: PIC24FJ16MC101T-I/SO; DatasheetVersion: revB, Jun-2011; PackageVersion: revBB, Aug-2009; PackageReference: SOIC-SO20; PackageDescription: 20-Lead Plastic Small Outline (SO) - Wide 7.50mm Body [SOIC]; Supplier 1: Digi-Key; Supplier Part Number 1: PIC24FJ16MC101T-I/SO-ND; Supplier 2: Mouser; Supplier Part Number 2: 579-24FJ16MC101TISO; Mounting Technology: Surface Mount; Code_JEDEC: MS-013-AC; Code_IPC: SOIC127P1030-20; ComponentLink1Description: Manufacturer URL; ComponentLink1URL: http://www.microchip.com/; ComponentLink2Description: Datasheet; ComponentLink2URL: http://ww1.microchip.com/downloads/en/DeviceDoc/39997B.pdf; ComponentLink3Description: Package Specification; ComponentLink3URL: http://www.microchip.com/stellent/groups/techpub_sg/documents/packagingspec/en012702.pdf
footprint SOIC-SO20_N (SOIC, 20-Leads, Body 12.8x7.5mm, Pitch 1.27mm, IPC Medium Density)
footprint SOIC-SO20_L (SOIC, 20-Leads, Body 12.8x7.5mm, Pitch 1.27mm, IPC High Density)
footprint SOIC-SO20_M (SOIC, 20-Leads, Body 12.8x7.5mm, Pitch 1.27mm, IPC Low Density)
pins: 1 ~{MCLR} (in), 2 PGED2/AN0/C3INB/C1INA/CTED1/CN2/RA0 (io), 3 PGEC2/AN1/C3INA/C1INB/CTED2/CN3/RA1 (io), 4 PGED1/AN2/C2INA/C1INC/RP0/CN4/RB0 (io), 5 PGEC1/AN3/CVREFIN/CVREFOUT/C2INB/C1IND/RP1/CN5/RB1 (io), 6 VSS (power), 7 OSCI/CLKI/CN30/RA2 (io), 8 OSCO/CLKO/CN29/RA3 (io), 9 PGED3/SOSCI/RP4/CN1/RB4 (io), 10 PGEC3/SOSCO/T1CK/CN0/RA4 (io), 11 FLTA1/SCK1/INT0/RP7/CN23/RB7 (io), 12 SCL1/SDO1/PWM1H3/RP8/CN22/RB8 (io), 13 SDA1/SDI1/PWM1L3/RP9/CN21/RB9 (io), 14 VCAP (power), 15 PWM1H2/RP12/CN14/RB12 (io), 16 PWM1L2/RP13/CN13/RB13 (io), 17 PWM1H1/RTCC/RP14/CN12/RB14 (io), 18 PWM1L1/RP15/CN11/RB15 (io), 19 VSS (power), 20 VDD (power)

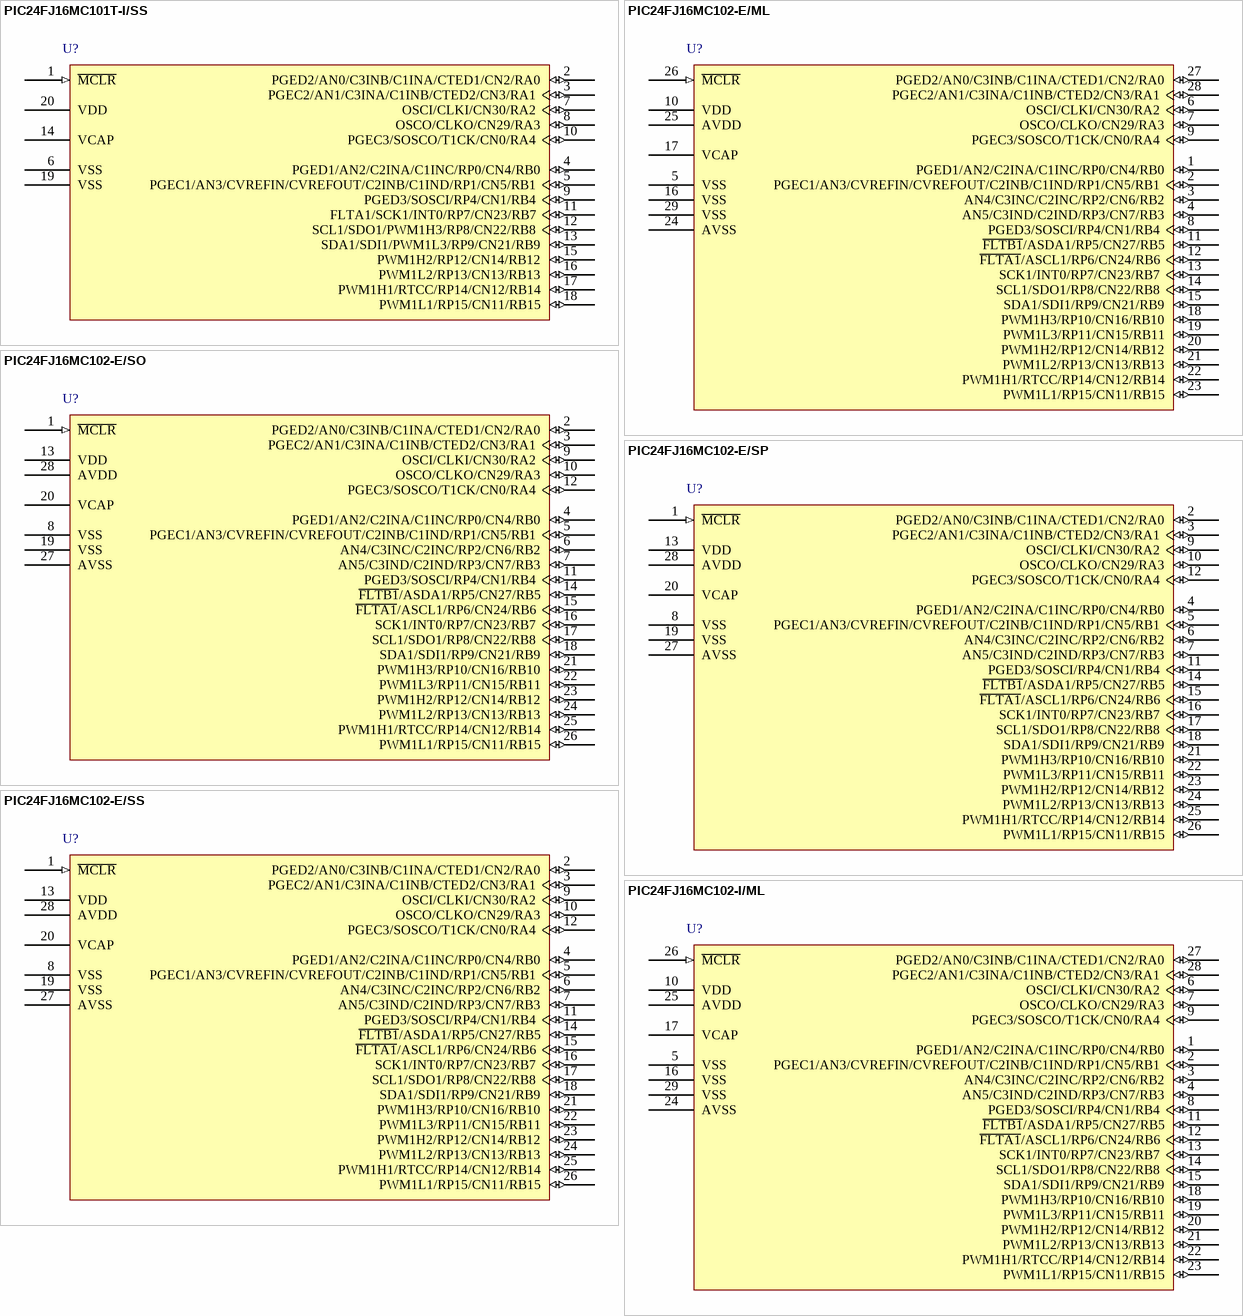
[diagram p25: symbols PIC24FJ16MC101T-I/SS to PIC24FJ16MC102-I/ML]

## PIC24FJ16MC101T-I/SS
designator U?
High-Performance 16-Bit Microcontroller, 16KB Flash, 1KB SRAM, 20-Pin SSOP, Industrial Temperature, Tape and Reel; Manufacturer: Microchip; PartNumber: PIC24FJ16MC101T-I/SS; DatasheetVersion: revB, Jun-2011; PackageVersion: revBB, Aug-2009; PackageReference: SSOP-SS20; PackageDescription: 20-Lead Plastic Shrink Small Outline (SS) - 5.3mm Body [SSOP]; Supplier 1: Digi-Key; Supplier Part Number 1: PIC24FJ16MC101T-I/SS-ND; Supplier 2: Mouser; Supplier Part Number 2: 579-24FJ16MC101TISS; Mounting Technology: Surface Mount; Code_JEDEC: MO-150; ComponentLink1Description: Manufacturer URL; ComponentLink1URL: http://www.microchip.com/; ComponentLink2Description: Datasheet; ComponentLink2URL: http://ww1.microchip.com/downloads/en/DeviceDoc/39997B.pdf; ComponentLink3Description: Package Specification; ComponentLink3URL: http://www.microchip.com/stellent/groups/techpub_sg/documents/packagingspec/en012702.pdf
footprint SSOP-SS20_N (SOP, 20-Leads, Body 7.2x5.2mm, Pitch 0.65mm, IPC Medium Density)
footprint SSOP-SS20_L (SOP, 20-Leads, Body 7.2x5.2mm, Pitch 0.65mm, IPC High Density)
footprint SSOP-SS20_M (SOP, 20-Leads, Body 7.2x5.2mm, Pitch 0.65mm, IPC Low Density)
pins: 1 ~{MCLR} (in), 2 PGED2/AN0/C3INB/C1INA/CTED1/CN2/RA0 (io), 3 PGEC2/AN1/C3INA/C1INB/CTED2/CN3/RA1 (io), 4 PGED1/AN2/C2INA/C1INC/RP0/CN4/RB0 (io), 5 PGEC1/AN3/CVREFIN/CVREFOUT/C2INB/C1IND/RP1/CN5/RB1 (io), 6 VSS (power), 7 OSCI/CLKI/CN30/RA2 (io), 8 OSCO/CLKO/CN29/RA3 (io), 9 PGED3/SOSCI/RP4/CN1/RB4 (io), 10 PGEC3/SOSCO/T1CK/CN0/RA4 (io), 11 FLTA1/SCK1/INT0/RP7/CN23/RB7 (io), 12 SCL1/SDO1/PWM1H3/RP8/CN22/RB8 (io), 13 SDA1/SDI1/PWM1L3/RP9/CN21/RB9 (io), 14 VCAP (power), 15 PWM1H2/RP12/CN14/RB12 (io), 16 PWM1L2/RP13/CN13/RB13 (io), 17 PWM1H1/RTCC/RP14/CN12/RB14 (io), 18 PWM1L1/RP15/CN11/RB15 (io), 19 VSS (power), 20 VDD (power)

## PIC24FJ16MC102-E/ML
designator U?
High-Performance 16-Bit Microcontroller, 16KB Flash, 1KB SRAM, 28-Pin QFN, Extended Temperature; Manufacturer: Microchip; PartNumber: PIC24FJ16MC102-E/ML; DatasheetVersion: revB, Jun-2011; PackageVersion: revBB, Aug-2009; PackageReference: QFN-ML28; PackageDescription: 28-Lead Plastic Quad Flat, No Lead Package (ML) - 6x6 mm Body [QFN] with 0.55 mm Contact Length; Supplier 1: Digi-Key; Supplier Part Number 1: PIC24FJ16MC102-E/ML-ND; Supplier 2: Mouser; Supplier Part Number 2: 579-24FJ16MC102EML; Mounting Technology: Surface Mount; Code_JEDEC: MO-220; ComponentLink1Description: Manufacturer URL; ComponentLink1URL: http://www.microchip.com/; ComponentLink2Description: Datasheet; ComponentLink2URL: http://ww1.microchip.com/downloads/en/DeviceDoc/39997B.pdf; ComponentLink3Description: Package Specification; ComponentLink3URL: http://www.microchip.com/stellent/groups/techpub_sg/documents/packagingspec/en012702.pdf
footprint QFN-ML28_N (QFN, 28-Leads, Body 6x6mm, Pitch 0.65mm, Thermal Pad 4.2x4.2mm, IPC Medium Density)
footprint QFN-ML28_L (QFN, 28-Leads, Body 6x6mm, Pitch 0.65mm, Thermal Pad 4.2x4.2mm, IPC High Density)
footprint QFN-ML28_M (QFN, 28-Leads, Body 6x6mm, Pitch 0.65mm, Thermal Pad 4.2x4.2mm, IPC Low Density)
pins: 1 PGED1/AN2/C2INA/C1INC/RP0/CN4/RB0 (io), 2 PGEC1/AN3/CVREFIN/CVREFOUT/C2INB/C1IND/RP1/CN5/RB1 (io), 3 AN4/C3INC/C2INC/RP2/CN6/RB2 (io), 4 AN5/C3IND/C2IND/RP3/CN7/RB3 (io), 5 VSS (power), 6 OSCI/CLKI/CN30/RA2 (io), 7 OSCO/CLKO/CN29/RA3 (io), 8 PGED3/SOSCI/RP4/CN1/RB4 (io), 9 PGEC3/SOSCO/T1CK/CN0/RA4 (io), 10 VDD (power), 11 ~{FLTB1}/ASDA1/RP5/CN27/RB5 (io), 12 ~{FLTA1}/ASCL1/RP6/CN24/RB6 (io), 13 SCK1/INT0/RP7/CN23/RB7 (io), 14 SCL1/SDO1/RP8/CN22/RB8 (io), 15 SDA1/SDI1/RP9/CN21/RB9 (io), 16 VSS (power), 17 VCAP (power), 18 PWM1H3/RP10/CN16/RB10 (io), 19 PWM1L3/RP11/CN15/RB11 (io), 20 PWM1H2/RP12/CN14/RB12 (io), 21 PWM1L2/RP13/CN13/RB13 (io), 22 PWM1H1/RTCC/RP14/CN12/RB14 (io), 23 PWM1L1/RP15/CN11/RB15 (io), 24 AVSS (power), 25 AVDD (power), 26 ~{MCLR} (in), 27 PGED2/AN0/C3INB/C1INA/CTED1/CN2/RA0 (io), 28 PGEC2/AN1/C3INA/C1INB/CTED2/CN3/RA1 (io), 29 VSS (power)

## PIC24FJ16MC102-E/SO
designator U?
High-Performance 16-Bit Microcontroller, 16KB Flash, 1KB SRAM, 28-Pin SOIC, Extended Temperature; Manufacturer: Microchip; PartNumber: PIC24FJ16MC102-E/SO; DatasheetVersion: revB, Jun-2011; PackageVersion: revBB, Aug-2009; PackageReference: SOIC-SO28; PackageDescription: 28-Lead Plastic Small Outline (SO) - Wide 7.50mm Body [SOIC]; Supplier 1: Digi-Key; Supplier Part Number 1: PIC24FJ16MC102-E/SO-ND; Supplier 2: Mouser; Supplier Part Number 2: 579-24FJ16MC102ESO; Mounting Technology: Surface Mount; Code_JEDEC: MS-013; ComponentLink1Description: Manufacturer URL; ComponentLink1URL: http://www.microchip.com/; ComponentLink2Description: Datasheet; ComponentLink2URL: http://ww1.microchip.com/downloads/en/DeviceDoc/39997B.pdf; ComponentLink3Description: Package Specification; ComponentLink3URL: http://www.microchip.com/stellent/groups/techpub_sg/documents/packagingspec/en012702.pdf
footprint SOIC-SO28_N (SOIC, 28-Leads, Body 17.9x7.5mm, Pitch 1.27mm, IPC Medium Density)
footprint SOIC-SO28_L (SOIC, 28-Leads, Body 17.9x7.5mm, Pitch 1.27mm, IPC High Density)
footprint SOIC-SO28_M (SOIC, 28-Leads, Body 17.9x7.5mm, Pitch 1.27mm, IPC Low Density)
pins: 1 ~{MCLR} (in), 2 PGED2/AN0/C3INB/C1INA/CTED1/CN2/RA0 (io), 3 PGEC2/AN1/C3INA/C1INB/CTED2/CN3/RA1 (io), 4 PGED1/AN2/C2INA/C1INC/RP0/CN4/RB0 (io), 5 PGEC1/AN3/CVREFIN/CVREFOUT/C2INB/C1IND/RP1/CN5/RB1 (io), 6 AN4/C3INC/C2INC/RP2/CN6/RB2 (io), 7 AN5/C3IND/C2IND/RP3/CN7/RB3 (io), 8 VSS (power), 9 OSCI/CLKI/CN30/RA2 (io), 10 OSCO/CLKO/CN29/RA3 (io), 11 PGED3/SOSCI/RP4/CN1/RB4 (io), 12 PGEC3/SOSCO/T1CK/CN0/RA4 (io), 13 VDD (power), 14 ~{FLTB1}/ASDA1/RP5/CN27/RB5 (io), 15 ~{FLTA1}/ASCL1/RP6/CN24/RB6 (io), 16 SCK1/INT0/RP7/CN23/RB7 (io), 17 SCL1/SDO1/RP8/CN22/RB8 (io), 18 SDA1/SDI1/RP9/CN21/RB9 (io), 19 VSS (power), 20 VCAP (power), 21 PWM1H3/RP10/CN16/RB10 (io), 22 PWM1L3/RP11/CN15/RB11 (io), 23 PWM1H2/RP12/CN14/RB12 (io), 24 PWM1L2/RP13/CN13/RB13 (io), 25 PWM1H1/RTCC/RP14/CN12/RB14 (io), 26 PWM1L1/RP15/CN11/RB15 (io), 27 AVSS (power), 28 AVDD (power)